# EAGLE library part CON_PROG-8 (library con_prog)
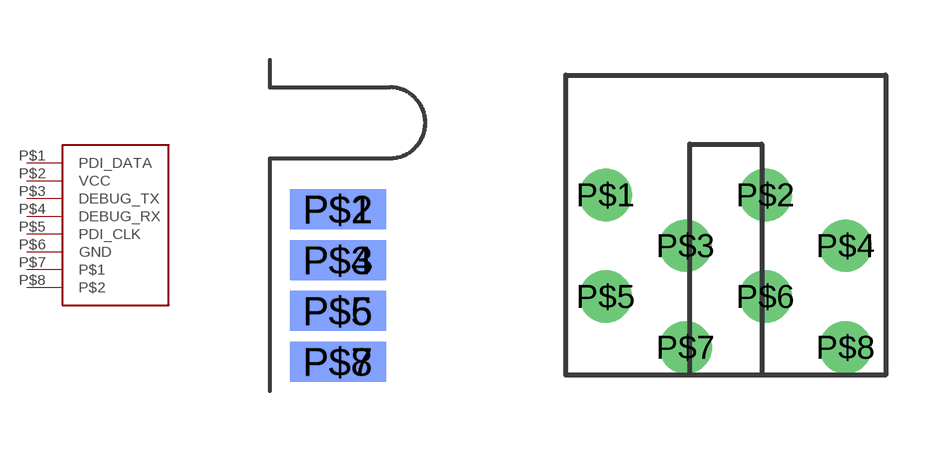
[diagram p1: symbol with the pads of SMD-8; footprints SMD-8, SMD-8-F]

Designator prefix -

## CON_PROG-8SMD-8-M  [SMD-8]
P$1  PDI_DATA
P$2  VCC
P$3  DEBUG_TX
P$4  DEBUG_RX
P$5  PDI_CLK
P$6  GND
P$7  P$1
P$8  P$2

## CON_PROG-8SMD-8-F  [SMD-8-F]
Pads as for SMD-8

## Footprint SMD-8 (pad centres in mm)
smd 2.4 x 1: P$1 1.7,-0.03; P$3 1.7,-1.3; P$5 1.7,-2.57; P$7 1.7,-3.84
smd 2.4 x 1 bottom: P$2 1.7,-0.03; P$4 1.7,-1.3; P$6 1.7,-2.57; P$8 1.7,-3.84

## Footprint SMD-8-F (pad centres in mm)
drill 0.8: P$1 -3,0; P$2 1,0; P$3 -1,-1.27; P$4 3,-1.27; P$5 -3,-2.54; P$6 1,-2.54; P$7 -1,-3.81; P$8 3,-3.81